# Altium schematic symbol library gpa_passives.SchLib: 9 symbols
Pins are listed as number, name and electrical type; pins without a type are passive.

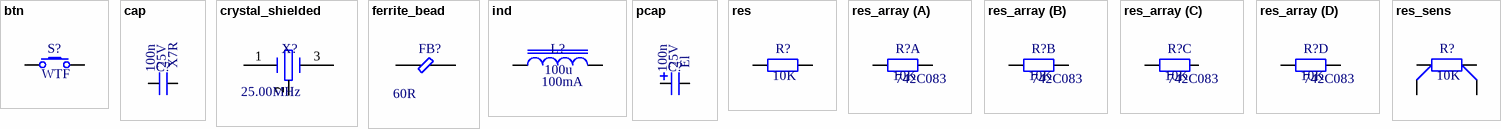
[diagram p0: symbols btn to res_sens]

## btn
designator S?  Text: WTF  (hidden comment: btn)
footprint SW_6MM_TACT (6mm Tactile switch)
pins: 1, 2

## cap
designator C?  value 100n  Voltage: 25V  Type: X7R
Capacitor; Manufacturer: *; Series: *
footprint C1005[0402] (1005[0402])
footprint C1608[0603] (1608[0603])
footprint C2012[0805] (2012[0805])
footprint C3216[1206] (3216[1206])
footprint C3225[1210] (3225[1210])
footprint C4532[1812] (4532[1812])
footprint C4564[1825] (4564[1825])
pins: 1, 2

## crystal_shielded
designator X?  value 25.00MHz
Crystal with shield
footprint FA-238 (DFN, 4-Leads, Body 2.50x3.20mm, Pitch 2.10mm, IPC Medium Density)
pins: 1, 2, 3

## ferrite_bead
designator FB?, comment value 60R  (hidden comment: Ferrite bead)
Frequency: 100M
footprint FBC1608X07N (Chip Ferrite bead 2-Leads, Body 1.60x0.80mm, IPC Medium Density)
footprint FBC1005X06N (Chip Ferrite Bead, 2-Leads, Body 1.00x0.50mm, IPC Medium Density)
pins: 1, 2

## ind
designator L?, comment value 100u  Current: 100mA  (hidden comment: ASPI-0630LR-XXXM-T15)
footprint BOURNS_SRN6045TA-XXX (Molded Inductor, 2-Leads, Body 6.00x6.00mm, IPC Medium Density)
footprint LITTLEFUSE_INDC2520X10N (Chip Inductor, 2-Leads, Body 2.50x2.00mm, IPC Medium Density)
footprint VISHAY_IHLM2525CZERXXXM01 (Molded Inductor, 2-Leads, Body 6.86x6.47mm, IPC Medium Density)
footprint YUDEN_NRS4018T-XXXMDGJ (Molded Inductor, 2-Leads, Body 4.00x4.00mm, IPC Medium Density)
pins: 1, 2

## pcap
designator C?  value 100n  Voltage: 25V  Type: El
Polarized capacitor; Manufacturer: *; Series: *
footprint CAPAE7366X55M (Aluminum Electrolytic Capacitor, Body 6.60x6.60x5.50mm, IPC Low Density)
pins: 1, 2

## res
designator R?  value 10K  (hidden comment: res)
Resistor; Tolerance: 5%
footprint R1005[0402] (1005[0402])
footprint R1608[0603] (1608[0603])
footprint R2012[0805] (2012[0805])
footprint R3216[1206] (3216[1206])
footprint R3225[1210] (3225[1210])
footprint R5025[2010] (5025[2010])
footprint R6332[2512] (6332[2512])
pins: 1, 2

## res_array
designator R?, comment 742C083  value 10K
Resistor
footprint CAC-80P319X159-8N (742C083 - Chip Array, Concave, 8-Leads, Pitch 0.80mm,  Body 3.20x1.60mm,  IPC Medium Density)
part A pins: 1, 2
part B pins: 3, 4
part C pins: 5, 6
part D pins: 7, 8

## res_sens
designator R?  value 10K  (hidden comment: *)
Resistor
footprint 4W_R320P320X90-4N (WSK1206 4 Lead 1206, 4-Leads, Body 1.60x3.20mm, Pitch 3.20mm, IPC Medium Density)
pins: 1, 2, S1, S2